# Altium schematic symbol library BioRocketSchematics.schlib: 16 symbols
Pins are listed as number, name and electrical type; pins without a type are passive.

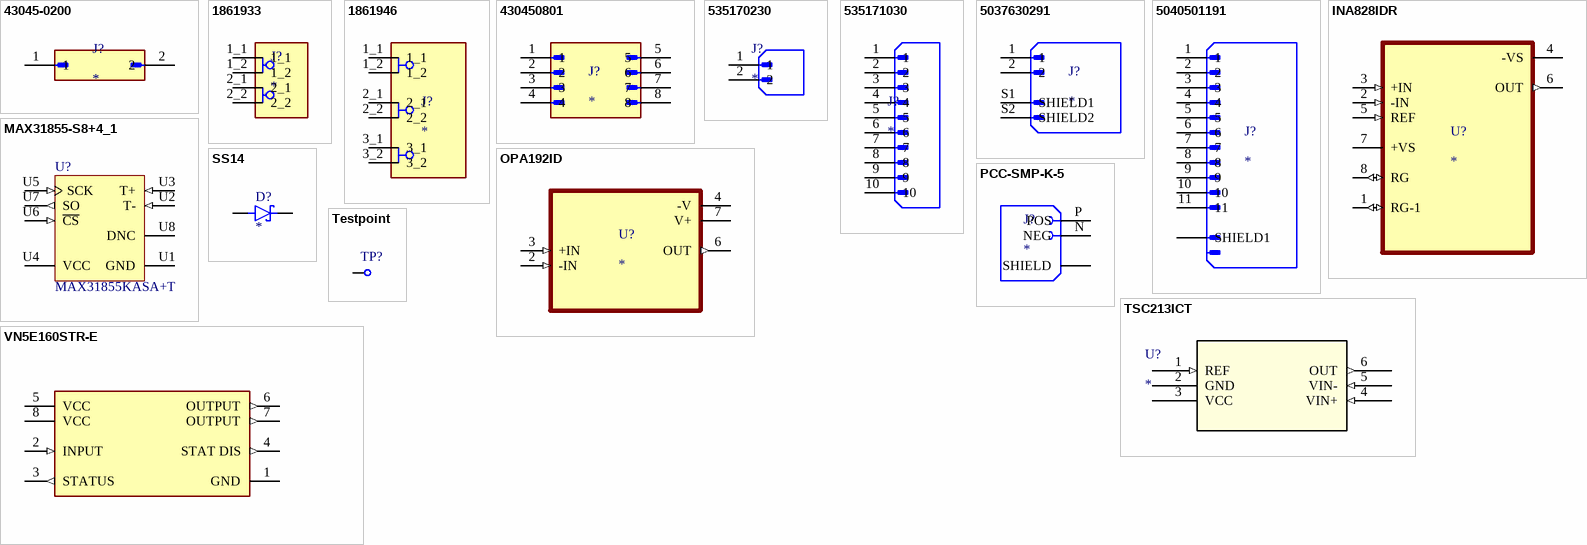
[diagram p0: symbols 43045-0200 to VN5E160STR-E]

## 43045-0200
designator J?
Connector Header Through Hole, Right Angle 2 position -; MF: Molex; MP: 43045-0200; Digi-Key_Part_Number: WM1813-ND; SnapEDA_Link: https://www.snapeda.com/parts/43045-0200/Molex/view-part/?ref=snap; Purchase-URL: https://pricing.snapeda.com/search/part/43045-0200/?ref=eda; Package: None; Check_prices: https://www.snapeda.com/parts/43045-0200/Molex/view-part/?ref=eda; Value: *
footprint MOLEX_43045-0200
pins: 1, 2

## 1861933
designator J?
MP: 1861933; Package: None; Price: None; Value: *; Availability: Unavailable
footprint PHOENIX_1861933
pins: 1_1, 1_2, 2_1, 2_2

## 1861946
designator J?
MF: {'manufacturer': u'Phoenix Contact'}; MP: 1861946; Package: None; Price: None; Value: *; Availability: Unavailable
footprint PHOENIX_1861946
pins: 1_1, 1_2, 2_1, 2_2, 3_1, 3_2

## 430450801
designator J?
Conn Power HDR 8 POS 3mm Solder RA Thru-Hole 8 Terminal 1 Port Micro-Fit 3.0â„¢ Tray; MF: Molex; MP: 430450801; Availability: In Stock; SnapEDA_Link: https://www.snapeda.com/parts/430450801/Molex/view-part/?ref=snap; Price: None; Check_prices: https://www.snapeda.com/parts/430450801/Molex/view-part/?ref=eda; Package: None; Purchase-URL: https://pricing.snapeda.com/search/part/430450801/?ref=eda; Value: *
footprint MOLEX_430450801
pins: 1, 2, 3, 4, 5, 6, 7, 8

## 535170230
designator J?
2.50mm Pitch, Mini-Lock PCB Header, Single Row, Vertical, Through Hole, Matte Tin Plating, Positive Lock, 2 Circuits, Tray, 3.50mm PC Tail Length, Natural; MP: 535170230; Availability: Unavailable; Package: None; Price: None; Value: *
footprint MOLEX_535170230
pins: 1, 2

## 535171030
designator J?
2.50mm Pitch, Mini-Lock PCB Header, Single Row, Vertical, Through Hole, Matte Tin Plating, Positive Lock, 10 Circuits, Tray, 3.50mm PC Tail Length, Natural; MP: 535171030; Value: *; Price: None; Availability: Unavailable; Package: None
footprint MOLEX_535171030
pins: 1, 2, 3, 4, 5, 6, 7, 8, 9, 10

## 5037630291
designator J?
MP: 5037630291; Value: *; Package: None; Price: None; Availability: Unavailable
footprint MOLEX_5037630291
pins: 1, 2, S1 SHIELD1, S2 SHIELD2

## 5040501191
designator J?
MP: 5040501191; Price: None; Availability: Unavailable; Value: *; Package: None
footprint MOLEX_5040501191
pins: 1, 2, 3, 4, 5, 6, 7, 8, 9, 10, 11, S1 SHIELD1, S2 SHIELD1

## INA828IDR
designator U?
50-Î¼V Offset, 7-nV/âˆšHz Noise, Low-Power, Precision Instrumentation Amplifier; MF: Texas Instruments; MP: INA828IDR; SnapEDA_Link: https://www.snapeda.com/parts/INA828IDR/Texas+Instruments/view-part/?ref=snap; Package: SOIC-8 Texas Instruments; Value: *; Check_prices: https://www.snapeda.com/parts/INA828IDR/Texas+Instruments/view-part/?ref=eda
footprint SOIC127P599X175-8N
pins: 1 RG-1 (io), 2 -IN (in), 3 +IN (in), 4 -VS (power), 5 REF (in), 6 OUT (out), 7 +VS (power), 8 RG (io)

## MAX31855-S8+4_1
designator U?, comment MAX31855KASA+T
Cold Junction Compensated Thermocouple to Digital Converter, 14 Bits Temperature Resolution, -40 to 125 degC, 8-Pin SOIC (S8+4), Pb-Free, Tape ang Reel; Interface: SPI; Parasite Pwr.: No; Functions: Thermocouple-to-Digital Converter; ComponentLink3Description: Package Specification; DatasheetVersion: Rev. 2; Generic Part Number: MAX31855; PartNumber: MAX31855KASA+T; PackageReference: S8+4; ComponentLink3URL: http://pdfserv.maximintegrated.com/package_dwgs/21-0041.PDF; Code_JEDEC: MS-012; Packing: Tape ang Reel; PackageDescription: 8-Pin Small-Outline IC, Narrow, Body 3.9 x 4.9 mm, Pitch 1.27 mm; Mounting Technology: Surface Mount; ComponentLink1URL: http://www.maximintegrated.com/; PackageVersion: Rev. D, 10/2012; ComponentLink2URL: http://datasheets.maximintegrated.com/en/ds/MAX31855.pdf; ComponentLink1Description: Manufacturer URL; ComponentLink2Description: Datasheet
footprint MAXM-S8+4_L (SOIC, 8-Leads, Body 4.9x3.9mm, Pitch 1.27mm, IPC High Density)
pins: U1 GND (power) "Ground", U2 T- (in) "Thermocouple Input. See Table 1. Do not connect to GND.", U3 T+ (in) "Thermocouple Input. See Table 1.", U4 VCC (power) "Power-Supply Voltage", U5 SCK (in) "Serial-Clock Input", U6 ~{CS} (in) "Active-Low Chip Select. Set C\S\ low to enable the serial interface.", U7 SO (out) "Serial-Data Output", U8 DNC "Do Not Connect"

## OPA192ID
designator U?
High-Voltage, Rail-to-Rail Input/Output, 5ÂµV, 0.2ÂµV/ËšC, Precision Operational Amplifier; MF: Texas Instruments; MP: OPA192ID; SnapEDA_Link: https://www.snapeda.com/parts/OPA192ID/Texas+Instruments/view-part/?ref=snap; Package: SOIC-8 Texas Instruments; Value: *; Check_prices: https://www.snapeda.com/parts/OPA192ID/Texas+Instruments/view-part/?ref=eda
footprint SOIC127P599X175-8N
pins: 2 -IN (in), 3 +IN (in), 4 -V (power), 6 OUT (out), 7 V+ (power)

## PCC-SMP-K-5
designator J?
Thermocouple Conn, K Type, Rcpt, Pk 5; MP: PCC-SMP-K-5; MF: Omega Engineering; Check_prices: https://www.snapeda.com/parts/PCC-SMP-K-5/Omega%20Engineering/view-part/2886965/?ref=eda; Package: None; SnapEDA_Link: https://www.snapeda.com/parts/PCC-SMP-K-5/Omega%20Engineering/view-part/2886965/?ref=snap; Value: *; Price: None; Availability: No availability data
footprint OMEGA_PCC-SMP-K-5
pins: N NEG, P POS, S1 SHIELD, S2 SHIELD

## SS14
designator D?
MP: SS14; Value: *; Availability: Unavailable; Price: None; Package: None
footprint DIOM4325X250N
pins: A, C K

## Testpoint
designator TP?  (value not drawn)  (no BOM)
TESTPOINT 0.7MMD Hole, 1.2MMW, 1.2MML
footprint Testpoint (0.7MMD, 1.2MMW, 1.2MML)
pins: 1 (power)

## TSC213ICT
designator U?
No Description Available; Mfr_Name: STMicroelectronics; RefDes: RefDes; Type: Type
footprint SC70-6_STM
pins: 1 REF (in), 2 GND (power), 3 VCC (power), 4 VIN+ (in), 5 VIN- (in), 6 OUT (out)

## VN5E160STR-E
designator U?
Single channel high side driver for automotive applications in a SO-8 package.; Manufacturer: STMicroelectronics; Max Supply Voltage: 28V; Min Supply Voltage: 4.5V; Number of Outputs: 1; Max Supply Current: 3.5mA; Max Output Current: 10A; Operating Supply Voltage: 13V; On-State Resistance: 160mR; Output Current per Channel: 7A; Turn-Off Delay Time: 15us; Turn-On Delay Time: 10us; Supplier 1: RSComponents; Supplier Part Number 1: 1906863P; Manufacturer Part Number: VN5E160STR-E; RoHS: Yes; Category: Hot Swap Controllers; Stock: 7410; Pricing: 50=1.40400, 100=1.33000, 250=1.25500, 500=1.19700 (GBP); Mount: Surface Mount; Case/Package: SOIC; Number of Pins: 8; Min Operating Temperature: -40°C; Max Operating Temperature: 150°C; Packaging: Tape and Reel; Package Quantity: 2500; Output Current: 10A; Nominal Supply Current: 3.5mA; Number of Drivers: 1; Series: VIPower™; Supply Current: 3.5mA; Radiation Hardening: No; Lead Free: Lead Free; RoHS Compliant: Yes; ComponentLink1URL: https://datasheet.ciiva.com/12213/cd00161993-115163-12213649.pdf?src-supplier=Mouser; ComponentLink1Description: https://datasheet.ciiva.com/12213/cd00161993-115163-12213649.pdf?src-supplier=Mouser; ComponentLink2URL: https://datasheet.ciiva.com/16510/cd00161993-16510912.pdf?src-supplier=Future+Electronics; ComponentLink2Description: https://datasheet.ciiva.com/16510/cd00161993-16510912.pdf?src-supplier=Future+Electronics; ComponentLink3URL: https://datasheet.ciiva.com/1956/cd00161993-1956305.pdf?src-supplier=Digi-Key; ComponentLink3Description: https://datasheet.ciiva.com/1956/cd00161993-1956305.pdf?src-supplier=Digi-Key
footprint VN5E160STR-E
pins: 1 GND (power), 2 INPUT (in), 3 STATUS (out), 4 STAT DIS (out), 5 VCC (power), 6 OUTPUT (out), 7 OUTPUT (out), 8 VCC (power)